# EAGLE library part KONWERTER-NAPIECIA-3.3/5V (library Hanna.Gościniak)
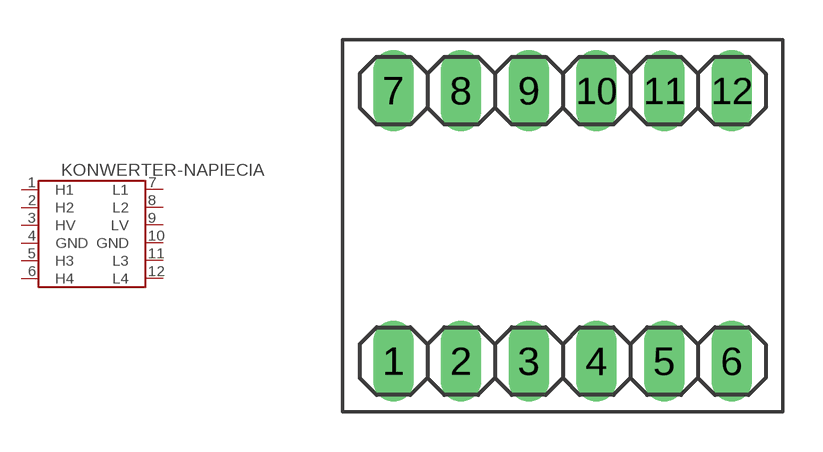
[diagram p1: symbol with the pads of KONWERTER-NAPIECIA-3.3/5V; footprint KONWERTER-NAPIECIA-3.3/5V]

Designator prefix KONWERTER-NAPIECIA

## KONWERTER-NAPIECIA-3.3/5V  [KONWERTER-NAPIECIA-3.3/5V]
1  H1
2  H2
3  HV
4  GND
5  H3
6  H4
7  L1
8  L2
9  LV
10  GND
11  L3
12  L4

## Footprint KONWERTER-NAPIECIA-3.3/5V (pad centres in mm)
drill 1.016 long: 1 -6.35,-5.08; 2 -3.81,-5.08; 3 -1.27,-5.08; 4 1.27,-5.08; 5 3.81,-5.08; 6 6.35,-5.08; 7 -6.35,5.08; 8 -3.81,5.08; 9 -1.27,5.08; 10 1.27,5.08; 11 3.81,5.08; 12 6.35,5.08